# EAGLE library part PJ-082BH (library barrel_pj-082bh)
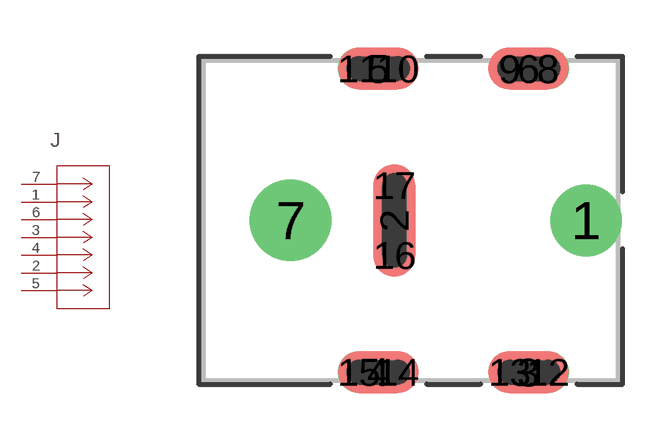
[diagram p0: symbol with the pads of CONN_82BH; footprint CONN_82BH]

Designator prefix J

## PJ-082BH (COPYRIGHT: Copyright (C) 2022 Ultra Librarian. All rights reserved.; DIGI-KEY_PART_NUMBER_1: CP-082BHTR-ND; DIGI-KEY_PART_NUMBER_2: CP-082BHCT-ND; MANUFACTURER_PART_NUMBER: PJ-082BH; MFR_NAME: CUI Inc)  [CONN_82BH]
1  1  pas
2  2  pas
3  3  pas
4  4  pas
5  5  pas
6  6  pas
7  7  pas

## Footprint CONN_82BH (pad centres in mm)
drill 1.499 pad 2.007: 1 0,0
smd 1.308 x 3.508: 2 -6,0
smd 2.508 x 1.308: 3 -1.8,-4.75; 4 -6.5,-4.75; 5 -6.5,4.75; 6 -1.8,4.75
drill 1.702 pad 2.21: 7 -9.246,0
drill 0.787 pad 0.787: 8 -1.194,4.75; 9 -2.388,4.75; 10 -5.893,4.75; 11 -7.112,4.75; 12 -1.194,-4.75; 13 -2.388,-4.75; 14 -5.893,-4.75; 15 -7.112,-4.75; 16 -5.994,-1.092; 17 -5.994,1.092